# Altium footprint library DE-020224.PcbLib: 119 footprints (part 7 of 8)
Each footprint in its own frame and in the unit in brackets; x right, y up, seen from the top. Pads: shape width x height; smd on the part's side, far side on the other; paste and mask are expansions set on the pad; w line width, h text height; cw(c..) or ccw(c..) is an arc to the next point about the centre after c.
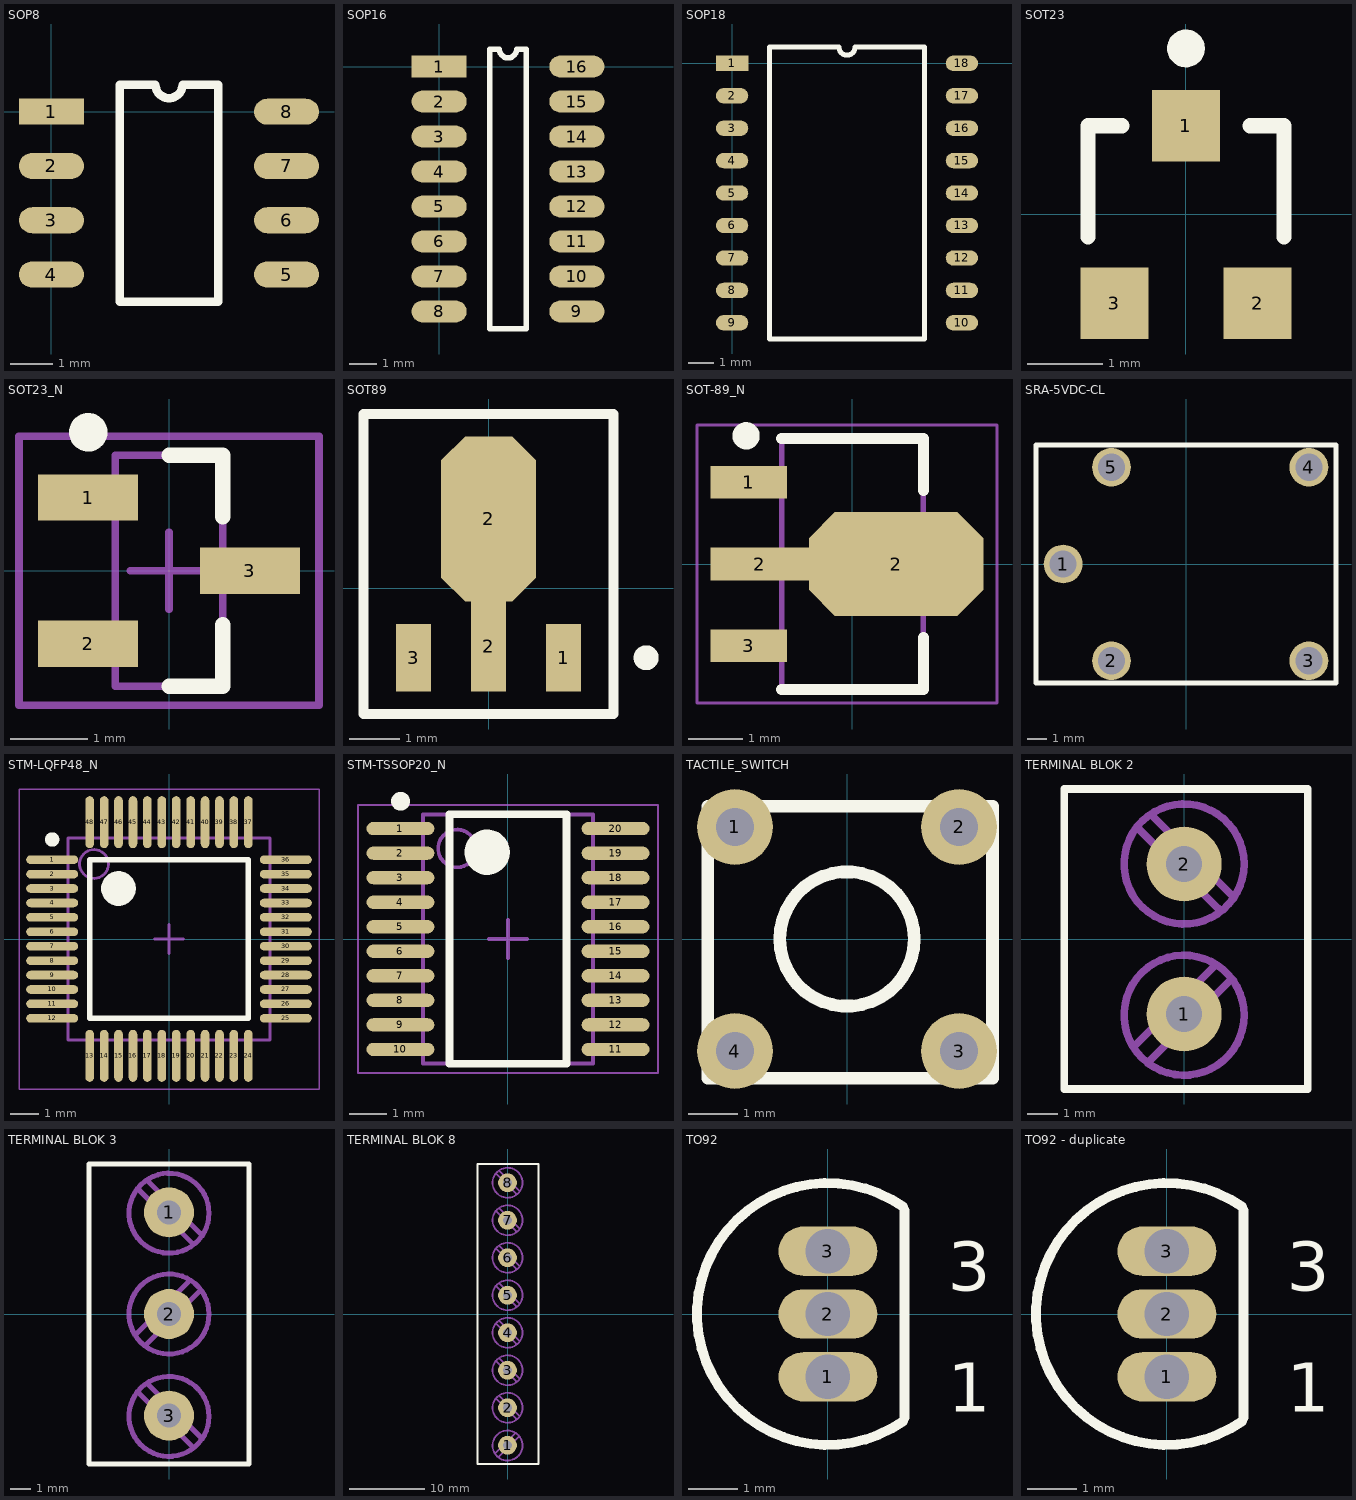
[diagram p6: the footprints below, top view; thin cyan lines are the x and y axes]

## SOP8 [mm]
pads (8):
  rect 1.52x0.61 smd: 1(0,0)
  oval 1.52x0.61 smd: 2(0,-1.27) 3(0,-2.54) 4(0,-3.81) 5(5.5,-3.81) 6(5.5,-2.54) 7(5.5,-1.27) 8(5.5,0)
Top Overlay:
  lines w0.2: 1.595,-4.445 1.595,0.635 2.432,0.635 ccw(c2.75,0.635) 3.067,0.635 3.905,0.635 3.905,-4.445 1.595,-4.445

## SOP16 [mm]
pads (16):
  rect 2x0.8 smd: 1(0,0)
  oval 2x0.8 smd: 2(0,-1.27) 3(0,-2.54) 4(0,-3.81) 5(0,-5.08) 6(0,-6.35) 7(0,-7.62) 8(0,-8.89) 9(5,-8.89) 10(5,-7.62) 11(5,-6.35) 12(5,-5.08) 13(5,-3.81) 14(5,-2.54) 15(5,-1.27) 16(5,0)
Top Overlay:
  lines w0.2: 1.835,-9.525 1.835,0.635 2.183,0.635 ccw(c2.5,0.635) 2.818,0.635 3.165,0.635 3.165,-9.525 1.835,-9.525
3D body: height 1.75, standoff 0.2, extent 0.381,-9.525 4.699,0.635

## SOP18 [mm]
pads (18):
  rect 1.27x0.6 smd: 1(0,0)
  oval 1.27x0.6 smd: 2(0,-1.27) 3(0,-2.54) 4(0,-3.81) 5(0,-5.08) 6(0,-6.35) 7(0,-7.62) 8(0,-8.89) 9(0,-10.16) 10(9,-10.16) 11(9,-8.89) 12(9,-7.62) 13(9,-6.35) 14(9,-5.08) 15(9,-3.81) 16(9,-2.54) 17(9,-1.27) 18(9,0)
Top Overlay:
  lines w0.2: 1.47,-10.795 7.53,-10.795 7.53,0.635 4.817,0.635 cw(c4.5,0.635) 4.182,0.635 1.47,0.635 1.47,-10.795

## SOT23 [mm] "SOT-23; 3 Leads; Body 3.1 x 2.5 mm, inc. leads (LxW max), Alternate Lead Configuration"
height 1.1
pads (3):
  rect 0.9x0.95 smd: 1(0,1.175) 2(0.95,-1.175) 3(-0.95,-1.175)
Top Overlay:
  circle w0.25: c0,2.2 r0.125
  lines w0.2: -1.3,-0.3 -1.3,1.175 -0.85,1.175 ; 0.85,1.175 1.3,1.175 1.3,-0.3

## SOT23_N [mm] "SOT23, 3-Leads, Body 2.9x1.3mm, Pitch 0.95mm, Lead Span 2.3mm, IPC Medium Density"
height 1.1
pads (3):
  rect 1.3x0.6 smd: 1(-1.05,0.95) 2(-1.05,-0.95) 3(1.05,0)
Top Overlay:
  circle w0.25: c-1.05,1.8 r0.125
  lines w0.2: 0,-1.5 0.7,-1.5 0.7,-0.7 ; 0,1.5 0.7,1.5 0.7,0.7
Mechanical 13:
  lines w0.1: -0.7,-1.5 0.7,-1.5 0.7,1.5 -0.7,1.5 -0.7,-1.5
Mechanical 15:
  lines w0.1: -0.5,0 0.5,0 ; 0,-0.5 0,0.5 ; -1.95,-1.75 1.95,-1.75 1.95,1.75 -1.95,1.75 -1.95,-1.75
3D body: height 1.1, standoff 0, extent -0.7,-1.5 0.7,1.5

## SOT89 [mm] "SOT-89; Body 4.6 x 4.25 mm, inc. leads (LxW max); Reverse Pinning"
height 1.6
pads (4):
  rect 0.7x1.35 smd: 1(1.5,-1.388) 3(-1.5,-1.388)
  rect 0.7x1.8 smd: 2(0,-1.162)
  oct 1.9x3.3 smd: 2(0,1.388)
Top Overlay:
  circle w0.25: c3.15,-1.388 r0.125
  lines w0.2: -2.5,-2.512 2.5,-2.512 2.5,3.487 -2.5,3.487 -2.5,-2.512

## SOT-89_N [mm] "SOT89, 3-Leads, Body 4.5x2.4 mm, Pitch 1.5mm, Lead Span 4.1mm, IPC Medium Density"
height 1.6
pads (4):
  rect 1.4x0.6 smd: 1(-1.9,1.5) 3(-1.9,-1.5)
  rect 1.8x0.6 smd: 2(-1.7,0)
  oct 3.2x1.9 smd: 2(0.8,0)
Top Overlay:
  circle w0.25: c-1.95,2.35 r0.125
  lines w0.2: -1.3,-2.3 1.3,-2.3 1.3,-1.35 ; -1.3,2.3 1.3,2.3 1.3,1.35
Mechanical 13:
  lines w0.1: -1.3,-2.3 1.3,-2.3 1.3,2.3 -1.3,2.3 -1.3,-2.3
Mechanical 15:
  lines w0.05: -2.85,-2.55 2.65,-2.55 2.65,2.55 -2.85,2.55 -2.85,-2.55
  lines w0.1: -0.5,0 0.5,0 ; 0,-0.5 0,0.5
3D body: height 1.6, standoff 0, extent -1.3,-2.3 1.3,2.3

## SRA-5VDC-CL [mm] "SPDT PCB Relay 5Vdc coil"
height 14
pads (5):
  round 2 hole 1.4: 1(-6.35,0) 2(-3.85,-5) 3(6.35,-5) 4(6.35,5) 5(-3.85,5)
Top Overlay:
  lines w0.254: -7.75,-6.15 7.75,-6.15 7.75,6.15 -7.75,6.15 -7.75,-6.15
3D body: height 14, standoff 0.2, extent -7.747,-6.096 7.747,6.096

## STM-LQFP48_N [mm] "QFP, 48-Leads, Body 7x7mm, Pitch 0.5mm, IPC Medium Density"
height 1.6
pads (48):
  oval 1.8x0.3 smd: 1(-4.05,2.75) 2(-4.05,2.25) 3(-4.05,1.75) 4(-4.05,1.25) 5(-4.05,0.75) 6(-4.05,0.25) 7(-4.05,-0.25) 8(-4.05,-0.75) 9(-4.05,-1.25) 10(-4.05,-1.75) 11(-4.05,-2.25) 12(-4.05,-2.75) 25(4.05,-2.75) 26(4.05,-2.25) 27(4.05,-1.75) 28(4.05,-1.25) 29(4.05,-0.75) 30(4.05,-0.25) 31(4.05,0.25) 32(4.05,0.75) 33(4.05,1.25) 34(4.05,1.75) 35(4.05,2.25) 36(4.05,2.75)
  oval 0.3x1.8 smd: 13(-2.75,-4.05) 14(-2.25,-4.05) 15(-1.75,-4.05) 16(-1.25,-4.05) 17(-0.75,-4.05) 18(-0.25,-4.05) 19(0.25,-4.05) 20(0.75,-4.05) 21(1.25,-4.05) 22(1.75,-4.05) 23(2.25,-4.05) 24(2.75,-4.05) 37(2.75,4.05) 38(2.25,4.05) 39(1.75,4.05) 40(1.25,4.05) 41(0.75,4.05) 42(0.25,4.05) 43(-0.25,4.05) 44(-0.75,4.05) 45(-1.25,4.05) 46(-1.75,4.05) 47(-2.25,4.05) 48(-2.75,4.05)
Top Overlay:
  circle w0.6: c-1.75,1.75 r0.3
  circle w0.25: c-4.05,3.45 r0.125
  lines w0.2: -2.75,-2.75 2.75,-2.75 2.75,2.75 -2.75,2.75 -2.75,-2.75
Mechanical 13:
  circle w0.1: c-2.6,2.6 r0.5
  lines w0.1: -3.5,-3.5 3.5,-3.5 3.5,3.5 -3.5,3.5 -3.5,-3.5
Mechanical 15:
  lines w0.05: -5.2,-5.2 5.2,-5.2 5.2,5.2 -5.2,5.2 -5.2,-5.2
  lines w0.1: -0.5,0 0.5,0 ; 0,-0.5 0,0.5
3D body: height 1.6, standoff 0.05, extent -3.5,-3.5 3.5,3.5

## STM-TSSOP20_N [mm] "SOP, 20-Leads, Body 6.6x4.5mm, Pitch 0.65mm, IPC Medium Density"
height 1.2
pads (20):
  oval 1.8x0.35 smd: 1(-2.85,2.925) 2(-2.85,2.275) 3(-2.85,1.625) 4(-2.85,0.975) 5(-2.85,0.325) 6(-2.85,-0.325) 7(-2.85,-0.975) 8(-2.85,-1.625) 9(-2.85,-2.275) 10(-2.85,-2.925) 11(2.85,-2.925) 12(2.85,-2.275) 13(2.85,-1.625) 14(2.85,-0.975) 15(2.85,-0.325) 16(2.85,0.325) 17(2.85,0.975) 18(2.85,1.625) 19(2.85,2.275) 20(2.85,2.925)
Top Overlay:
  circle w0.6: c-0.55,2.3 r0.3
  circle w0.25: c-2.85,3.65 r0.125
  lines w0.2: -1.55,-3.3 1.55,-3.3 1.55,3.3 -1.55,3.3 -1.55,-3.3
Mechanical 13:
  circle w0.1: c-1.35,2.4 r0.5
  lines w0.1: -2.25,-3.3 2.25,-3.3 2.25,3.3 -2.25,3.3 -2.25,-3.3
Mechanical 15:
  lines w0.05: -3.975,-3.55 3.975,-3.55 3.975,3.55 -3.975,3.55 -3.975,-3.55
  lines w0.1: -0.5,0 0.5,0 ; 0,-0.5 0,0.5
3D body: height 1.2, standoff 0.05, extent -2.25,-3.3 2.25,3.3

## TACTILE_SWITCH [mil] "PCB push button"
height 10
pads (4):
  round 60 hole 30: 1(-88.58,88.58) 2(88.58,88.58) 3(88.58,-88.58) 4(-88.58,-88.58)
Top Overlay:
  circle w10: c0,0 r53.15
  lines w10: -110,-110 115,-110 115,105 -110,105 -110,-110

## TERMINAL BLOK 2 [mm] "2 pinski terminal blok konektor"
height 10
pads (2):
  round 2.5 hole 1.2: 1(0,-2.5) 2(0,2.5)
Top Overlay:
  lines w0.254: -4,-5 4.127,-5 4.127,5 -4,5 -4,-5
Mechanical 1:
  circle w0.254: c0,-2.54 r2
  circle w0.254: c0,2.5 r2
  lines w0.254: -1.651,-3.556 1.016,-0.889 ; -1.524,3.683 1.143,1.016 ; -1.143,-4.064 1.524,-1.397 1.651,-1.397 ; -1.079,4.127 1.651,1.397

## TERMINAL BLOK 3 [mm] "3 pinski terminal blok konektor"
height 10
pads (3):
  round 2.5 hole 1.2: 1(0,5.08) 2(0,0) 3(0,-5.08)
Top Overlay:
  lines w0.254: -4,-7.5 -4,7.5 4,7.5 4,-7.5 -4,-7.5
Mechanical 1:
  circle w0.254: c0,5.04 r2
  circle w0.254: c0,-5.12 r2
  circle w0.254: c0,0 r2
  lines w0.254: -1.651,-1.016 1.016,1.651 ; -1.524,-3.937 1.143,-6.604 ; -1.524,6.223 1.143,3.556 ; -1.143,-1.524 1.524,1.143 ; -1.079,-3.492 1.651,-6.223 ; -1.079,6.667 1.651,3.937

## TERMINAL BLOK 8 [mm] "8 pinski terminal blok konektor"
height 10
pads (8):
  round 2.5 hole 1.2: 1(0,-17.5) 2(0,-12.5) 3(0,-7.5) 4(0,-2.5) 5(0,2.5) 6(0,7.5) 7(0,12.5) 8(0,17.5)
Top Overlay:
  lines w0.254: -4,-20 4.127,-20 4.127,20 -4,20 -4,-20
Mechanical 1:
  circle w0.254: c0,17.5 r2
  circle w0.254: c0,12.5 r2
  circle w0.254: c0,7.5 r2
  circle w0.254: c0,2.5 r2
  circle w0.254: c0,-2.5 r2
  circle w0.254: c0,-7.5 r2
  circle w0.254: c0,-17.54 r2
  circle w0.254: c0,-12.5 r2
  lines w0.254: -1.651,-18.556 1.016,-15.889 ; -1.524,-11.317 1.143,-13.984 ; -1.524,-6.317 1.143,-8.984 ; -1.524,-1.317 1.143,-3.984 ; -1.524,3.683 1.143,1.016 ; -1.524,8.683 1.143,6.016 ; -1.524,13.683 1.143,11.016 ; -1.524,18.683 1.143,16.016 ; -1.143,-19.064 1.524,-16.397 1.651,-16.397 ; -1.079,-10.872 1.651,-13.603 ; -1.079,-5.872 1.651,-8.603 ; -1.079,-0.872 1.651,-3.603 ; -1.079,4.128 1.651,1.397 ; -1.079,9.128 1.651,6.397 ; -1.079,14.128 1.651,11.397 ; -1.079,19.128 1.651,16.397

## TO92 [mm] "TO, Flat Index; 3 In-Line, Axial Leads; Body Dia. 4.8mm; Leads 0.51 x 0.51 mm (max)"
height 5.33
pads (3):
  oval 2x1 hole 0.9: 1(0,-1.27) 2(0,0) 3(0,1.27)
Top Overlay:
  lines w0.2: 1.52,-2.171 cw(c0,0) 1.52,2.171 ; 1.55,-2.1 1.55,2.1
  text "3" at 2.421,0.467 h1
  text "1" at 2.421,-1.979 h1

## TO92 - duplicate [mm] "TO, Flat Index; 3 In-Line, Axial Leads; Body Dia. 4.8mm; Leads 0.51 x 0.51 mm (max)"
height 5.33
pads (3):
  oval 2x1 hole 0.9: 1(0,-1.27) 2(0,0) 3(0,1.27)
Top Overlay:
  lines w0.2: 1.52,-2.171 cw(c0,0) 1.52,2.171 ; 1.55,-2.1 1.55,2.1
  text "3" at 2.421,0.467 h1
  text "1" at 2.421,-1.979 h1